# EAGLE library part MA09-2 (library con-lstb-custom)
PIN HEADER
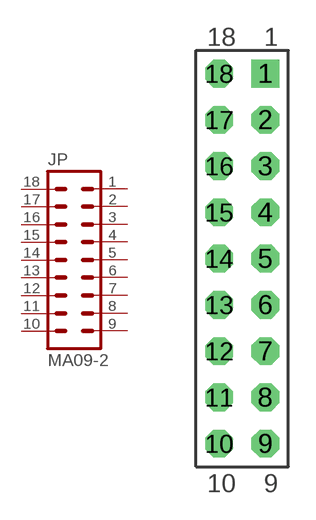
[diagram p29: symbol with the pads of MA09-2; footprint MA09-2]

Designator prefix JP

## MA09-2 (OC_FARNELL: unknown; OC_NEWARK: unknown)  [MA09-2]
1  1_  pas
2  2_  pas
3  3_  pas
4  4_  pas
5  5_  pas
6  6_  pas
7  7_  pas
8  8_  pas
9  9_  pas
10  18_  pas
11  17_  pas
12  16_  pas
13  15_  pas
14  14_  pas
15  13_  pas
16  12_  pas
17  11_  pas
18  10_  pas

## Footprint MA09-2 (pad centres in mm)
PIN HEADER
drill 1.016 square: 1 1.27,10.16
drill 1.016 octagon: 2 1.27,7.62; 3 1.27,5.08; 4 1.27,2.54; 5 1.27,0; 6 1.27,-2.54; 7 1.27,-5.08; 8 1.27,-7.62; 9 1.27,-10.16; 10 -1.27,-10.16; 11 -1.27,-7.62; 12 -1.27,-5.08; 13 -1.27,-2.54; 14 -1.27,0; 15 -1.27,2.54; 16 -1.27,5.08; 17 -1.27,7.62; 18 -1.27,10.16